# Altium schematic symbol library Crystals.SchLib: 1 symbol
Pins are listed as number, name and electrical type; pins without a type are passive.

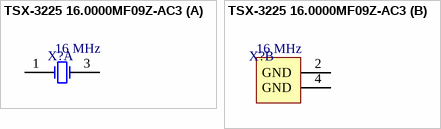
[diagram p0: symbol TSX-3225 16.0000MF09Z-AC3]

## TSX-3225 16.0000MF09Z-AC3
designator X?, comment Frequency: 16 MHz  (hidden comment: CRYS 16MHz 9pF)
Crystals 16MHz 10ppm 9pF -20C +75C; Manufacturer: Epson Timing; Manufacturer Part Number: TSX-3225 16.0000MF09Z-AC3; ESR: 60 Ohms; Supplier 1: Mouser; RoHS: RoHS Compliant; Category: Crystals; Stock 1: 36861; Pricing 1: 1=0.466, 10=0.350, 100=0.311, 250=0.295, 500=0.273, 1000=0.249, 2000=0.233, 5000=0.225, 10000=0.218 (EUR); Frequency Stability: 10 PPM; Height: 0.6 mm; Length: 3.2 mm; Load Capacitance: 9 pF; Operating Temperature Range: - 20 C to + 75 C; Package / Case: 1210 (3225 metric); Packaging: Reel; Series: FA-238V/FA-238/TSX-3225; Termination Style: SMD/SMT; Tolerance: 10 PPM; Type: MHz Range Crystal Unit; Width: 2.5 mm; Brand: Epson Timing; Mounting Style: SMD/SMT; Standard Pack Qty: 1000; RoHS - Mouser: Y; Minimum Order Quantity: 1; Reeling: True; ComponentLink1URL: http://www.mouser.com/ds/2/137/1721499-465440.pdf; ComponentLink1Description: http://www.mouser.com/ds/2/137/1721499-465440.pdf; Supplier Part Number 1: 732-TX325-16F09Z-AC3
footprint TSX-3225 16.0000MF09Z-AC3
part A pins: 1 X1, 3 X2
part B pins: 2 GND (power), 4 GND (power)